# Altium schematic symbol library CRCW060310K0DHEAP.SchLib: 2 symbols
Pins are listed as number, name and electrical type; pins without a type are passive.

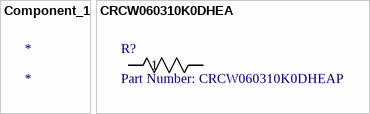
[diagram p0: symbols Component_1 to CRCW060310K0DHEA]

## Component_1
designator *

## CRCW060310K0DHEA
designator R?, comment Part Number: CRCW060310K0DHEAP
No Description Available; Vendor: Vishay; Built_By: EMA_UL_Team; Manufacturer_Part_Number: CRCW060310K0DHEAP; Copyright: Copyright (C) 2018 Accelerated Designs. All rights reserved; RefDes: RefDes; Type: DEV; Value: Value
footprint RC0603N
pins: 1, 2